# EAGLE library part AO4406AL (library AO4406AL)
N-Channel 30V 13A (Tc) 3.1W (Tc) Surface Mount 8-SOIC Source: Datasheet <https://datasheet.lcsc.com/szlcsc/Alpha-Omega-Semicon-AOS-AO4406AL_C35349.pdf>
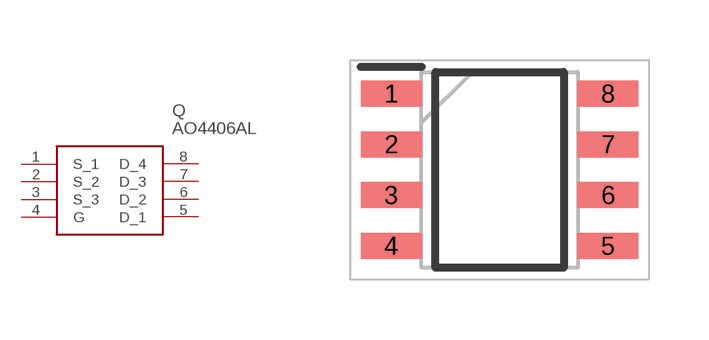
[diagram p0: symbol with the pads of SOIC127P600X175-8N; footprint SOIC127P600X175-8N]

Designator prefix Q

## AO4406AL (Description: N-Channel 30V 13A (Tc) 3.1W (Tc) Surface Mount 8-SOIC; Height: 1.75mm; Manufacturer_Name: Alpha & Omega Semiconductors; Manufacturer_Part_Number: AO4406AL)  [SOIC127P600X175-8N]
1  S_1
2  S_2
3  S_3
4  G
5  D_1
6  D_2
7  D_3
8  D_4

## Footprint SOIC127P600X175-8N (pad centres in mm)
so8
smd 1.525 x 0.65: 1 -2.712,1.905; 2 -2.712,0.635; 3 -2.712,-0.635; 4 -2.712,-1.905; 5 2.712,-1.905; 6 2.712,-0.635; 7 2.712,0.635; 8 2.712,1.905